# Altium integrated library BAT54-7-F.IntLib: 1 symbol
Pins are listed as number, name and electrical type; pins without a type are passive.

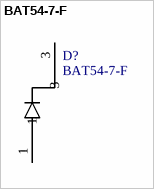
[diagram p0: symbol BAT54-7-F]

## BAT54-7-F
designator D?
Diode, Ultrafast Recovery, 200Ma, 30V, Sot-23-3, Full Reel; MF: Multicomp; SnapEDA_Link: https://www.snapeda.com/parts/BAT54-7-F/Multicomp/view-part/?ref=snap; Availability: Unavailable; Price: None; MP: BAT54-7-F; Package: SOT-23-3 Multicomp; Value: *
footprint *SOT95P240X110-3N
pins: 1, 3